# Altium schematic symbol library TI_National_Semiconductor_LM2576HVT_ADJ_NOPB.SchLib: 1 symbol
Pins are listed as number, name and electrical type; pins without a type are passive.

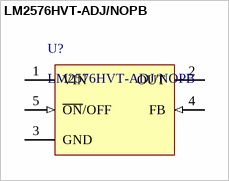
[diagram p0: symbol LM2576HVT-ADJ/NOPB]

## LM2576HVT-ADJ/NOPB
designator U?
SIMPLE SWITCHER® 3A Step-Down Voltage Regulator, 5-pin TO-220, Pb-Free; Manufacturer: Texas Instruments; PackageTopMarking: NSUZXYTTE#*LM2576HVT*-ADJ P+; PowerWise: N; ComponentLink1Description: Datasheet URL; PinCount: 5; ComponentLink1URL: http://www.ti.com/general/docs/lit/getliterature.tsp?genericPartNumber=LM2576HV&fileType=pdf; Code_JEDEC: TO-220-AB; PackageDescription: TO-220, Molded, 5 Lead, Straight; CompType: Switcher; RoHS: Y; PackageReference: KC0005A
footprint KC0005A
pins: 1 VIN (power), 2 OUT (power), 3 GND (power), 4 FB (in), 5 ~{ON}/OFF (in)